# EAGLE library part DPDT-PCMNT-E-SWITCH-100-SERIES (library ryans-common-components)
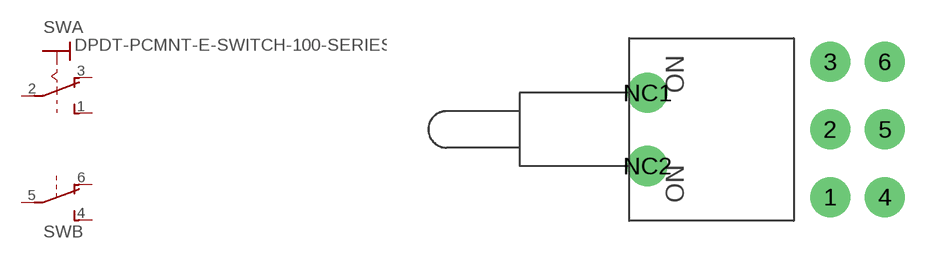
[diagram p7: symbol with the pads of DPDT-PC-E-SWITCH-100-SERIES; footprint DPDT-PC-E-SWITCH-100-SERIES]

Designator prefix SW; gates A=SW-SPDT-FIRST B=SW-SPDT-LAST

## DPDT-PCMNT-E-SWITCH-100-SERIES  [DPDT-PC-E-SWITCH-100-SERIES]
1  A:S  pas
2  A:P  pas
3  A:O  pas
4  B:S  pas
5  B:P  pas
6  B:O  pas

## Footprint DPDT-PC-E-SWITCH-100-SERIES (pad centres in mm)
drill 1.854: 1 6.35,-4.699; 2 6.35,0; 3 6.35,4.699; 4 10.16,-4.699; 5 10.16,0; 6 10.16,4.699; NC1 -6.35,2.54; NC2 -6.35,-2.54